# EAGLE library part MAX30101 (library ds_ic_peripherals)
High-Sensitivity Pulse Oximeter and Heart-Rate Sensor for Wearable Health
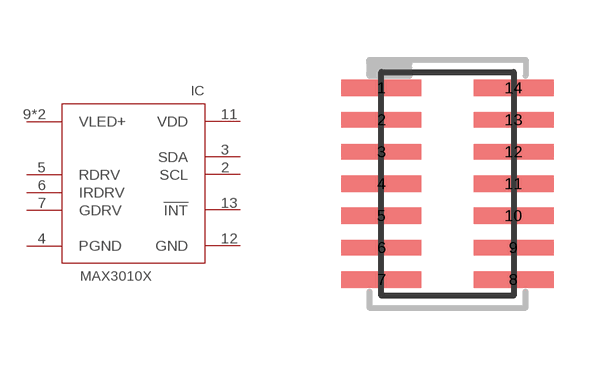
[diagram p31: symbol with the pads of OLGA14; footprint OLGA14]

Designator prefix IC

## MAX30101  [OLGA14]
2  SCL
3  SDA
4  PGND
5  RDRV
6  IRDRV
7  GDRV
9  VLED+
10  VLED+
11  VDD
12  GND
13  !INT

## Footprint OLGA14 (pad centres in mm)
smd 2 x 0.4: 1 -1.6,2.4; 2 -1.6,1.6; 3 -1.6,0.8; 4 -1.6,0; 5 -1.6,-0.8; 6 -1.6,-1.6; 7 -1.6,-2.4; 8 1.7,-2.4; 9 1.7,-1.6; 10 1.7,-0.8; 11 1.7,0; 12 1.7,0.8; 13 1.7,1.6; 14 1.7,2.4